# Altium schematic symbol library BD6221.Schlib: 1 symbol
Pins are listed as number, name and electrical type; pins without a type are passive.

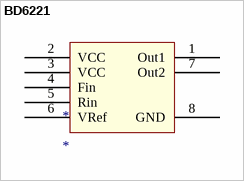
[diagram p0: symbol BD6221]

## BD6221
designator *
pins: 1 Out1, 2 VCC, 3 VCC, 4 Fin, 5 Rin, 6 VRef, 7 Out2, 8 GND